# Altium schematic symbol library Schlib1.SchLib: 9 symbols
Pins are listed as number, name and electrical type; pins without a type are passive.

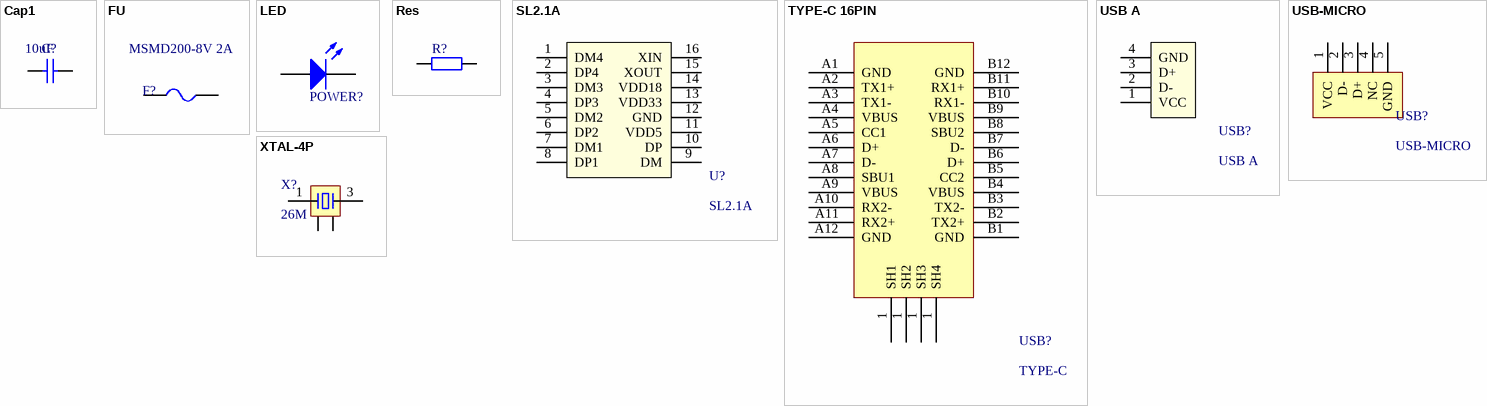
[diagram p0: symbols Cap1 to XTAL-4P]

## Cap1
designator C?, comment 10uF
footprint C 0805 (贴片带丝印)
pins: 1, 2

## FU
designator F?, comment MSMD200-8V 2A
贴片保险丝; BOM名称: 贴片保险丝
footprint FU 0402 (贴片保险丝)
footprint FU 0603 (贴片保险丝)
footprint FU 0805 (贴片保险丝)
footprint FU 1206 (贴片保险丝)
footprint FU 1210 (贴片保险丝)
footprint FU 1812 (贴片保险丝)
pins: 1, 2

## LED
designator POWER?  (value not drawn)
footprint LED 0805
pins: 1 A, 2 K

## Res
designator R?
footprint R 0805 (贴片带丝印)
pins: 1, 2

## SL2.1A
designator U?
footprint SOP16_N (10.3*6.2*1.8mm（长宽高）)
pins: 1 DM4, 2 DP4, 3 DM3, 4 DP3, 5 DM2, 6 DP2, 7 DM1, 8 DP1, 9 DM, 10 DP, 11 VDD5, 12 GND, 13 VDD33, 14 VDD18, 15 XOUT, 16 XIN

## TYPE-C 16PIN
designator USB?, comment TYPE-C
footprint USB Type-C-16Pin_A
pins: 1 SH4, 1 SH1, 1 SH2, 1 SH3, A1 GND, A2 TX1+, A3 TX1-, A4 VBUS, A5 CC1, A6 D+, A7 D-, A8 SBU1, A9 VBUS, A10 RX2-, A11 RX2+, A12 GND, B1 GND, B2 TX2+, B3 TX2-, B4 VBUS, B5 CC2, B6 D+, B7 D-, B8 SBU2, B9 VBUS, B10 RX1-, B11 RX1+, B12 GND

## USB A
designator USB?
footprint USB-A/S_A (A型直插母头，)
pins: 1 VCC, 2 D-, 3 D+, 4 GND

## USB-MICRO
designator USB?
footprint USB-micro_A (micro型USB ，5.7*7.8*2.5mm)
pins: 1 VCC, 2 D-, 3 D+, 4 NC, 5 GND

## XTAL-4P
designator X?, comment 26M
4脚无源晶振; 负载电容: CL20pF; BOM名称: 4脚无源晶振
footprint OSC
pins: 1, 2, 3, 4